# Altium footprint library 4N35SM.PcbLib: 1 footprints
Each footprint in its own frame and in the unit in brackets; x right, y up, seen from the top. Pads: shape width x height; smd on the part's side, far side on the other; paste and mask are expansions set on the pad; w line width, h text height; cw(c..) or ccw(c..) is an arc to the next point about the centre after c.
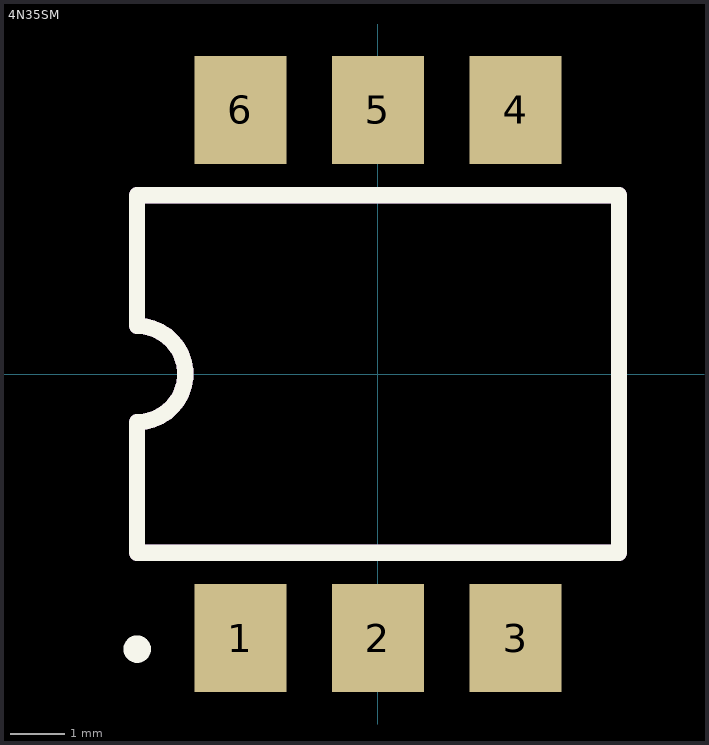
[diagram p0: the footprint, top view; thin cyan lines are the x and y axes]

## 4N35SM [mm]
pads (6):
  rect 1.7x2 smd: 1(-2.54,-4.875) 2(0,-4.875) 3(2.54,-4.875) 4(2.54,4.875) 5(0,4.875) 6(-2.54,4.875)
Top Overlay:
  circle w0.254: c-4.445,-5.08 r0.127
  lines w0.3: -4.45,-0.889 -4.45,-3.302 4.45,-3.302 4.45,3.302 -4.45,3.302 -4.45,0.889 ; -4.445,-0.889 ccw(c-4.445,0) -4.445,0.889
Mechanical 13:
  lines w0.3: -4.45,-0.889 -4.45,-3.302 4.45,-3.302 4.45,3.302 -4.45,3.302 -4.45,0.889 ; -4.445,-0.889 ccw(c-4.445,0) -4.445,0.889
  text ".Designator" at -3.048,-2.159 h2.5
3D body: height 3.82, standoff 0, extent -3.56,-4.94 3.56,4.94